# EAGLE library part MB85RS256-FRAM (library TrackerBase2)
IC FRAM 256K SPI 33MHZ 8SOP Fujitsu Electronics America, Inc. MB85RS256BPNF-G-JNERE1 $3.75 FRAM (Ferroelectric RAM) Memory IC 256Kb (32K x 8) SPI 33MHz 8-SOP https://www.digikey.com/product-detail/en/fujitsu-electronics-america-inc/MB85RS256BPNF-G-JNERE1/865-1251-1-ND/4022686
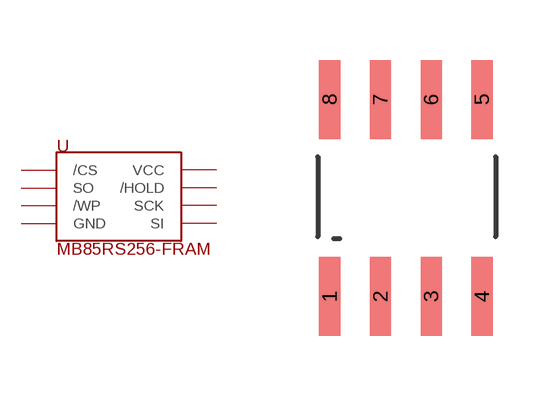
[diagram p3: symbol with the pads of 8-SOIC-MAXIM; footprint 8-SOIC-MAXIM]

Designator prefix U

## MB85RS256-FRAM (VALUE: MB85RC64)  [8-SOIC-MAXIM]
1  /CS  in
2  SO  out
3  /WP  in
4  GND  pas
5  SI  in
6  SCK  in
7  /HOLD  in
8  VCC  pwr

## Footprint 8-SOIC-MAXIM (pad centres in mm)
smd 0.53 x 1.98: 1 0,0; 2 1.27,0; 3 2.54,0; 4 3.81,0; 5 3.81,4.93; 6 2.54,4.93; 7 1.27,4.93; 8 0,4.93